# EAGLE library part SN74LVC1G74DCTR (library eric-custom)
SN74LVC1G74DCTR D-flip-flop
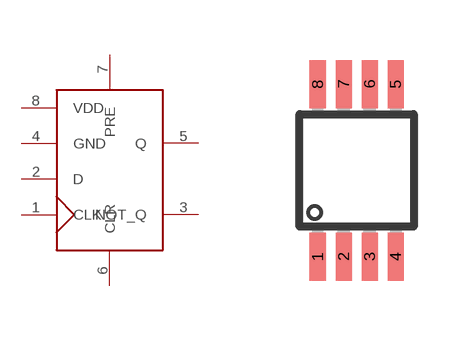
[diagram p4: symbol with the pads of S-PDSO-G08; footprint S-PDSO-G08]

Designator prefix -

## SN74LVC1G74DCTR  [S-PDSO-G08]
1  CLK
2  D
3  NOT_Q
4  GND
5  Q
6  CLR
7  PRE
8  VDD

## Footprint S-PDSO-G08 (pad centres in mm)
DGN (S-PDSO-G8) PowerPAD (TM) Plastic Small-Outline Package Source: http://focus.ti.com/lit/ds/symlink/ths4211.pdf
smd 0.4 x 1.2: 1 -0.975,-2.157; 2 -0.325,-2.157; 3 0.325,-2.157; 4 0.975,-2.157; 5 0.975,2.157; 6 0.325,2.157; 7 -0.325,2.157; 8 -0.975,2.157